# Altium footprint library DemoSchlib.PcbLib: 59 footprints (part 1 of 4)
Each footprint in its own frame and in the unit in brackets; x right, y up, seen from the top. Pads: shape width x height; smd on the part's side, far side on the other; paste and mask are expansions set on the pad; w line width, h text height; cw(c..) or ccw(c..) is an arc to the next point about the centre after c.
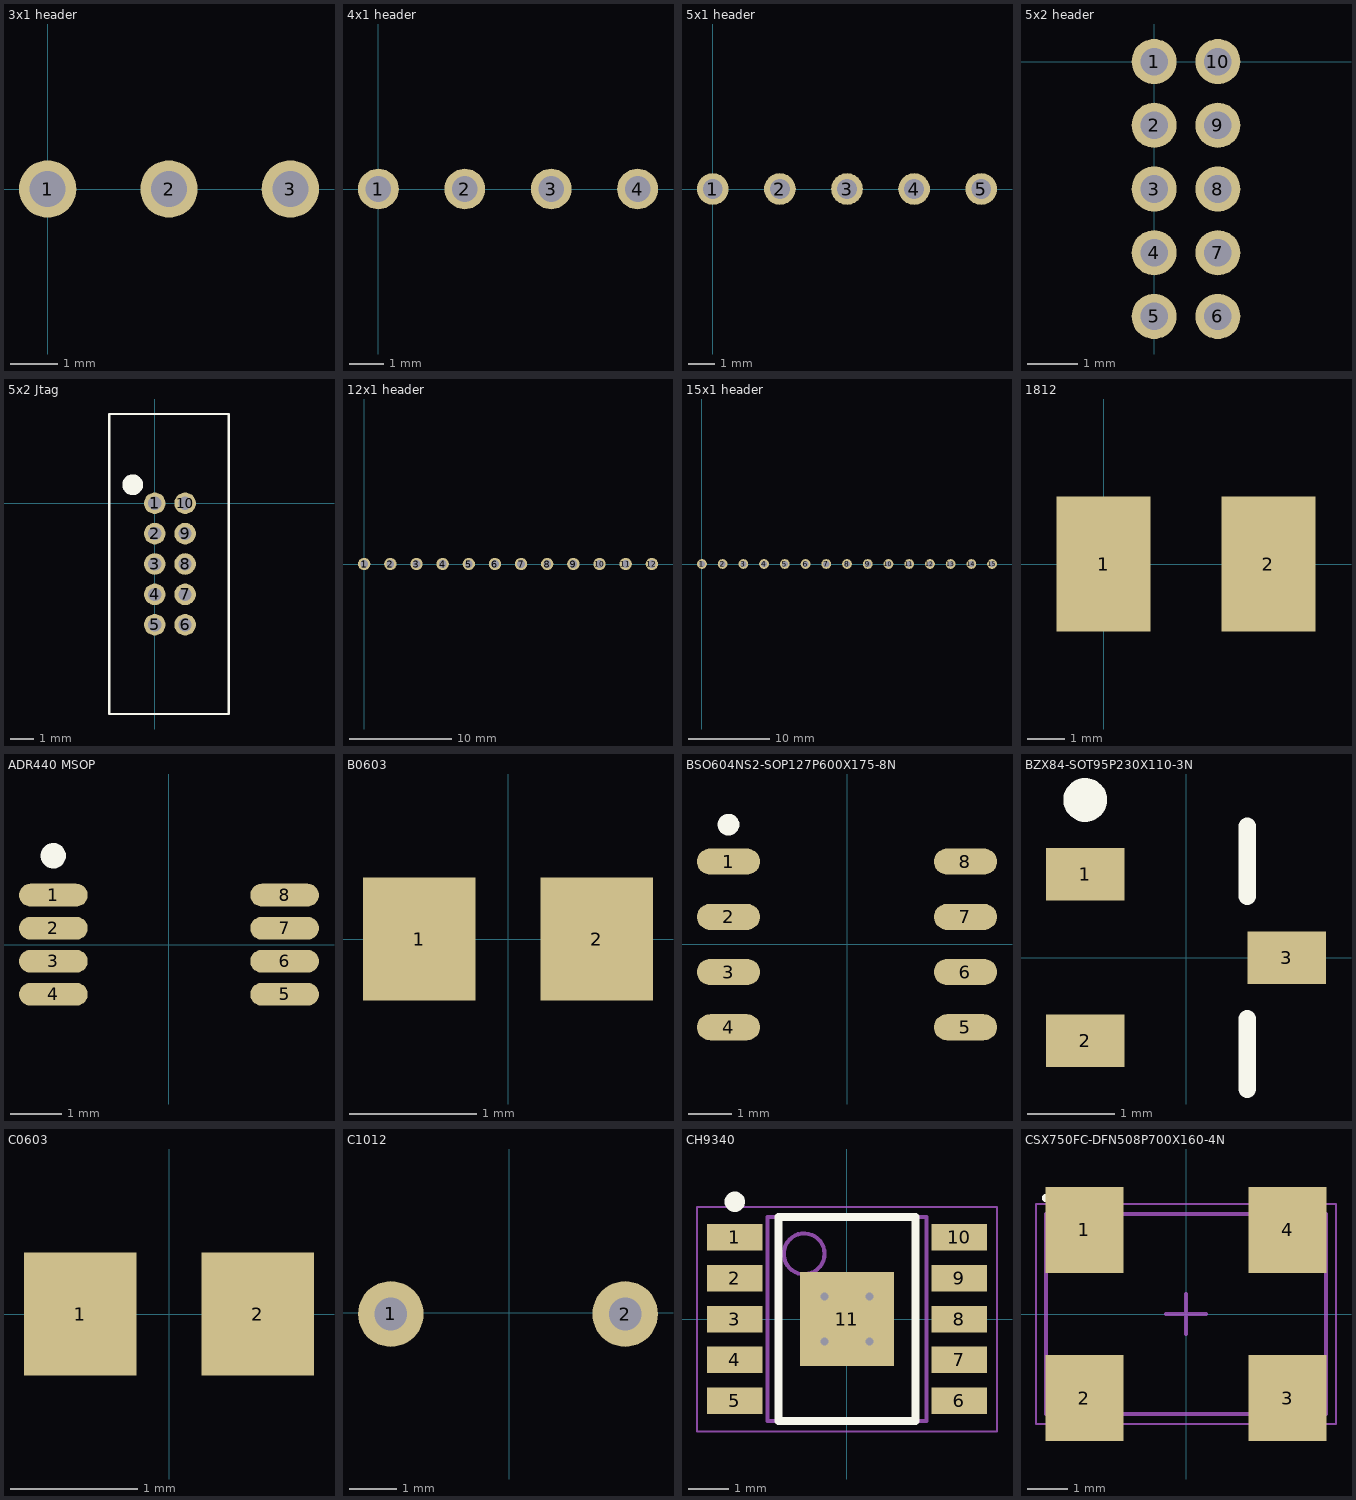
[diagram p0: the footprints below, top view; thin cyan lines are the x and y axes]

## 3x1 header [mm]
pads (3):
  round 1.2 hole 0.75: 1(0,0) 2(2.54,0) 3(5.08,0)

## 4x1 header [mm]
pads (4):
  round 1.2 hole 0.75: 1(0,0) 2(2.54,0) 3(5.08,0) 4(7.62,0)

## 5x1 header [mm]
pads (5):
  round 1.2 hole 0.75: 1(0,0) 2(2.54,0) 3(5.08,0) 4(7.62,0) 5(10.16,0)

## 5x2 header [mm]
pads (10):
  round 0.9 hole 0.55: 1(0,0) 2(0,-1.27) 3(0,-2.54) 4(0,-3.81) 5(0,-5.08) 6(1.27,-5.08) 7(1.27,-3.81) 8(1.27,-2.54) 9(1.27,-1.27) 10(1.27,0)

## 5x2 Jtag [mm]
pads (10):
  round 0.9 hole 0.55: 1(0,0) 2(0,-1.27) 3(0,-2.54) 4(0,-3.81) 5(0,-5.08) 6(1.27,-5.08) 7(1.27,-3.81) 8(1.27,-2.54) 9(1.27,-1.27) 10(1.27,0)
Top Overlay:
  circle w0.508: c-0.925,0.775 r0.18
  lines w0.1: -1.905,-8.815 3.095,-8.815 3.095,3.735 -1.905,3.735 -1.905,-8.815

## 12x1 header [mm]
pads (12):
  round 1.2 hole 0.75: 1(0,0) 2(2.54,0) 3(5.08,0) 4(7.62,0) 5(10.16,0) 6(12.7,0) 7(15.24,0) 8(17.78,0) 9(20.32,0) 10(22.86,0) 11(25.4,0) 12(27.94,0)

## 15x1 header [mm]
pads (15):
  round 1.2 hole 0.75: 1(0,0) 2(2.54,0) 3(5.08,0) 4(7.62,0) 5(10.16,0) 6(12.7,0) 7(15.24,0) 8(17.78,0) 9(20.32,0) 10(22.86,0) 11(25.4,0) 12(27.94,0) 13(30.48,0) 14(33.02,0) 15(35.56,0)

## 1812 [mm]
pads (2):
  rect 2.5x3.6 smd: 1(0,0) 2(4.4,0)
3D body: height 1.2, standoff 0, extent 0,-1.651 4.572,1.651

## ADR440 MSOP [mm] "基准参考电压"
height 1.1
pads (8):
  oval 1.35x0.45 smd: 1(-2.275,0.975) 2(-2.275,0.325) 3(-2.275,-0.325) 4(-2.275,-0.975) 5(2.275,-0.975) 6(2.275,-0.325) 7(2.275,0.325) 8(2.275,0.975)
Top Overlay:
  circle w0.25: c-2.275,1.75 r0.125
3D body "MSOP8.step": height 1.08, standoff -0.02, extent -2.469,-1.55 2.469,1.55

## B0603 [mil]
pads (2):
  rect 35x38 smd: 1(-27.5,0) 2(27.5,0)
3D body "bead0603.stp": height 30.75, standoff -0.75, extent -31.5,-15.74 31.5,15.75

## BSO604NS2-SOP127P600X175-8N [mm]
pads (8):
  oval 1.45x0.6 smd: 1(-2.725,1.905) 2(-2.725,0.635) 3(-2.725,-0.635) 4(-2.725,-1.905) 5(2.725,-1.905) 6(2.725,-0.635) 7(2.725,0.635) 8(2.725,1.905)
Top Overlay:
  circle w0.25: c-2.725,2.755 r0.125
3D body "SOP127P600X175-8N.step": height 1.75, standoff 0, extent -3,-2.5 3,2.5

## BZX84-SOT95P230X110-3N [mm] "SOT23, 3-Leads, Body 2.90x2.30mm, Pitch 0.95mm, IPC Medium Density"
height 1.1
pads (3):
  rect 0.9x0.6 smd: 1(-1.15,0.95) 2(-1.15,-0.95) 3(1.15,0)
Top Overlay:
  circle w0.25: c-1.15,1.8 r0.125
  lines w0.2: 0.7,-1.5 0.7,-0.7 ; 0.7,0.7 0.7,1.5
3D body "SOT95P230X110-3N.step": height 1.1, standoff 0, extent -1.3,-1.5 1.3,1.5

## C0603 [mil]
pads (2):
  rect 35x38 smd: 1(-27.5,0) 2(27.5,0)
3D body "cap0603.stp": height 33.31, standoff -0.94, extent -34.45,-18.4 34.45,19

## C1012 [mm]
pads (2):
  round 1.4 hole 0.7: 1(-2.525,-0.025) 2(2.475,-0.025)
3D body "cap10x12x5.STEP": height 12.01, standoff -2, extent -5.025,-5.025 4.975,4.975

## CH9340 [mm]
height 1.8
pads (11):
  rect 1.35x0.65 smd: 1(-2.75,2) 2(-2.75,1) 3(-2.75,0) 4(-2.75,-1) 5(-2.75,-2) 6(2.75,-2) 7(2.75,-1) 8(2.75,0) 9(2.75,1) 10(2.75,2)
  rect 2.3x2.3 smd: 11(0,0)
via 0.55,-0.55 diameter 0.5 hole 0.2
via -0.55,-0.55 diameter 0.5 hole 0.2
via 0.55,0.55 diameter 0.5 hole 0.2
via -0.55,0.55 diameter 0.5 hole 0.2
Top Overlay:
  circle w0.25: c-2.75,2.875 r0.125
  lines w0.2: -1.675,-2.5 1.675,-2.5 1.675,2.5 -1.675,2.5 -1.675,-2.5
Mechanical 13:
  circle w0.1: c-1.05,1.6 r0.5
  lines w0.1: -1.95,-2.5 1.95,-2.5 1.95,2.5 -1.95,2.5 -1.95,-2.5
Mechanical 15:
  lines w0.05: -3.675,-2.75 3.675,-2.75 3.675,2.75 -3.675,2.75 -3.675,-2.75
  lines w0.1: -0.5,0 0.5,0 ; 0,-0.5 0,0.5
3D body "CH9340.step": height 1.8, standoff 0, extent -3,-2.5 3,2.5

## CSX750FC-DFN508P700X160-4N [mm] "DFN, 4-Leads, Body 5.00x7.00mm, Pitch 5.08mm, IPC Medium Density"
height 1.6
pads (4):
  rect 1.95x2.15 smd: 1(-2.54,2.1) 2(-2.54,-2.1) 3(2.54,-2.1) 4(2.54,2.1)
Top Overlay:
  circle w0.1: c-3.5,2.9 r0.05
Mechanical 13:
  lines w0.1: -3.5,-2.5 3.5,-2.5 3.5,2.5 -3.5,2.5 -3.5,-2.5
Mechanical 15:
  lines w0.05: -3.75,-2.75 3.75,-2.75 3.75,2.75 -3.75,2.75 -3.75,-2.75
  lines w0.1: -0.5,0 0.5,0 ; 0,-0.5 0,0.5
3D body "DFN508P700X160-4N.step": height 1.6, standoff 0, extent -4.275,-3.15 3.415,3.05